# Altium footprint library ADI.PcbLib: 25 footprints (part 4 of 4)
Each footprint in its own frame and in the unit in brackets; x right, y up, seen from the top. Pads: shape width x height; smd on the part's side, far side on the other; paste and mask are expansions set on the pad; w line width, h text height; cw(c..) or ccw(c..) is an arc to the next point about the centre after c.
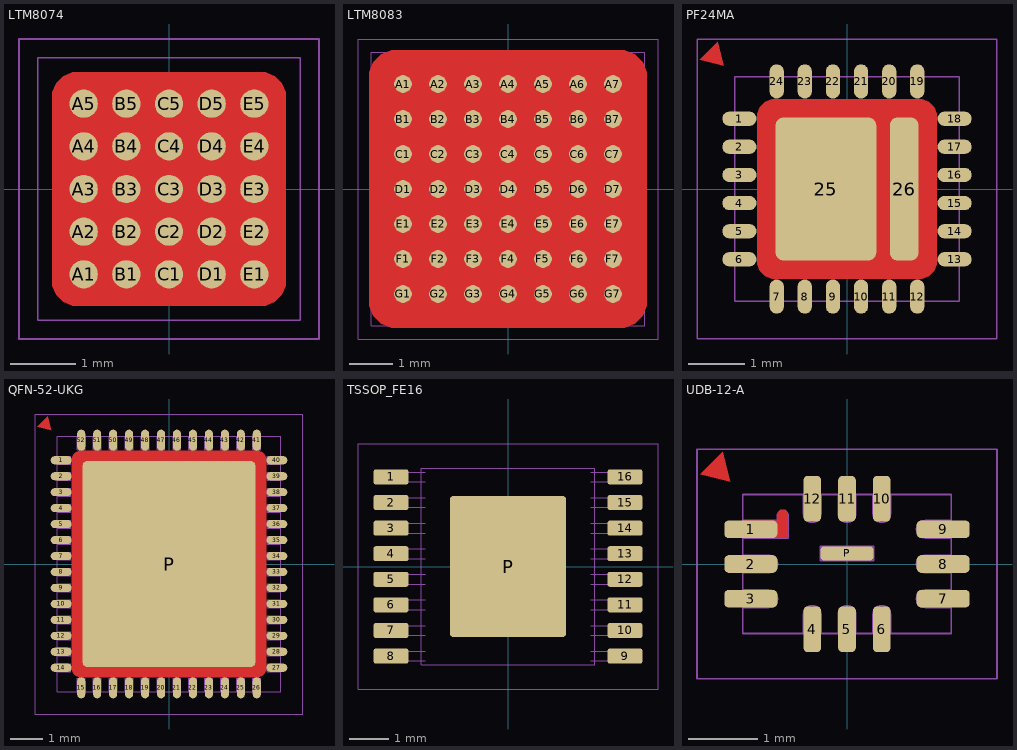
[diagram p3: the footprints below, top view; thin cyan lines are the x and y axes]

## LTM8074 [mil]
pads (25):
  round 17 smd paste+0 mask-1.5: A1(-51.18,-51.18) A2(-51.18,-25.59) A3(-51.18,0) A4(-51.18,25.59) A5(-51.18,51.18) B1(-25.59,-51.18) B2(-25.59,-25.59) B3(-25.59,0) B4(-25.59,25.59) B5(-25.59,51.18) C1(0,-51.18) C2(0,-25.59) C3(0,0) C4(0,25.59) C5(0,51.18) D1(25.59,-51.18) D2(25.59,-25.59) D3(25.59,0) D4(25.59,25.59) D5(25.59,51.18) E1(51.18,-51.18) E2(51.18,-25.59) E3(51.18,0) E4(51.18,25.59) E5(51.18,51.18)
Top Layer:
  pour cut-out: -55,70 -57.98,70 -63.5,67.72 -67.72,63.5 -70,57.98 -70,55 -70,-55 -70,-57.98 -67.72,-63.5 -63.5,-67.72 -57.98,-70 -55,-70 55,-70 57.98,-70 63.5,-67.72 67.72,-63.5 70,-57.98 70,-55 70,55 70,57.98 67.72,63.5 63.5,67.72 57.98,70 55,70
Top Solder:
  region: -89.2,-89.21 -60.65,-89.21 -89.2,-60.67
  region: -69.2,81.2 -68.4,81.2 -66.93,81.81 -65.81,82.93 -65.2,84.4 -65.2,85.2 -65.2,85.99 -65.81,87.46 -66.93,88.59 -68.4,89.2 -69.2,89.2 -85.2,89.2 -85.99,89.2 -87.46,88.59 -88.59,87.46 -89.2,85.99 -89.2,85.2 -89.2,69.2 -89.2,68.4 -88.59,66.93 -87.46,65.81 -85.99,65.2 -85.2,65.2 -84.4,65.2 -82.93,65.81 -81.81,66.93 -81.2,68.4 -81.2,69.2 -81.2,79.2 -81.16,79.59 -80.86,80.31 -80.31,80.86 -79.59,81.16 -79.2,81.2
  region: 81.21,69.2 81.21,68.4 81.82,66.93 82.94,65.81 84.41,65.2 85.21,65.2 86,65.2 87.48,65.81 88.6,66.93 89.21,68.4 89.21,69.2 89.21,85.2 89.21,85.99 88.6,87.46 87.48,88.59 86,89.2 85.21,89.2 69.21,89.2 68.41,89.2 66.94,88.59 65.82,87.46 65.21,85.99 65.21,85.2 65.21,84.4 65.82,82.93 66.94,81.81 68.41,81.2 69.21,81.2 79.21,81.2 79.6,81.16 80.32,80.86 80.87,80.31 81.17,79.59 81.21,79.2
  region: 69.21,-81.21 68.41,-81.21 66.94,-81.82 65.82,-82.94 65.21,-84.41 65.21,-85.21 65.21,-86 65.82,-87.48 66.94,-88.6 68.41,-89.21 69.21,-89.21 85.21,-89.21 86.01,-89.21 87.48,-88.6 88.6,-87.48 89.21,-86 89.21,-85.21 89.21,-69.21 89.21,-68.41 88.6,-66.94 87.48,-65.82 86.01,-65.21 85.21,-65.21 84.41,-65.21 82.94,-65.82 81.82,-66.94 81.21,-68.41 81.21,-69.21 81.21,-79.21 81.17,-79.6 80.87,-80.32 80.32,-80.87 79.6,-81.17 79.21,-81.21
Top Designator:
  text ".Designator" at -127.64,-12.5 h35
Top Courtyard:
  lines w1: -90,-90 90,-90 90,90 -90,90 -90,-90
Top Component Outline:
  lines w1: -78.73,-78.75 78.75,-78.75 78.75,78.73 -78.73,78.73 -78.73,-78.75
3D body "BGA25_A.step": height 46.36, standoff -1.02, extent -78.75,-78.75 78.73,78.73

## LTM8083 [mil]
pads (49):
  round 16 smd mask+2: A1(-94.49,94.49) A2(-62.99,94.49) A3(-31.5,94.49) A4(0,94.49) A5(31.5,94.49) A6(62.99,94.49) A7(94.49,94.49) B1(-94.49,62.99) B2(-62.99,62.99) B3(-31.5,62.99) B4(0,62.99) B5(31.5,62.99) B6(62.99,62.99) B7(94.49,62.99) C1(-94.49,31.5) C2(-62.99,31.5) C3(-31.5,31.5) C4(0,31.5) C5(31.5,31.5) C6(62.99,31.5) C7(94.49,31.5) D1(-94.49,0) D2(-62.99,0) D3(-31.5,0) D4(0,0) D5(31.5,0) D6(62.99,0) D7(94.49,0) E1(-94.49,-31.5) E2(-62.99,-31.5) E3(-31.5,-31.5) E4(0,-31.5) E5(31.5,-31.5) E6(62.99,-31.5) E7(94.49,-31.5) F1(-94.49,-62.99) F2(-62.99,-62.99) F3(-31.5,-62.99) F4(0,-62.99) F5(31.5,-62.99) F6(62.99,-62.99) F7(94.49,-62.99) G1(-94.49,-94.49) G2(-62.99,-94.49) G3(-31.5,-94.49) G4(0,-94.49) G5(31.5,-94.49) G6(62.99,-94.49) G7(94.49,-94.49)
Top Layer:
  pour cut-out: -100,125 -104.97,125 -114.16,121.19 -121.19,114.16 -125,104.97 -125,100 -125,-100 -125,-104.97 -121.19,-114.16 -114.16,-121.19 -104.97,-125 -100,-125 100,-125 104.97,-125 114.16,-121.19 121.19,-114.16 125,-104.97 125,-100 125,100 125,104.97 121.19,114.16 114.16,121.19 104.97,125 100,125
Top Solder:
  region: -125.5,-113.5 -125.5,-112.7 -126.1,-111.23 -127.23,-110.11 -128.7,-109.5 -129.5,-109.5 -130.29,-109.5 -131.76,-110.11 -132.89,-111.23 -133.5,-112.7 -133.5,-113.5 -133.5,-129.5 -133.5,-130.29 -132.89,-131.76 -131.76,-132.89 -130.29,-133.5 -129.5,-133.5 -113.5,-133.5 -112.7,-133.5 -111.23,-132.89 -110.1,-131.76 -109.5,-130.29 -109.5,-129.5 -109.5,-128.7 -110.1,-127.23 -111.23,-126.11 -112.7,-125.5 -113.5,-125.5 -123.5,-125.5 -123.89,-125.46 -124.61,-125.16 -125.16,-124.61 -125.46,-123.89 -125.5,-123.5
  region: 113.5,-125.5 112.7,-125.5 111.23,-126.1 110.11,-127.23 109.5,-128.7 109.5,-129.5 109.5,-130.29 110.11,-131.76 111.23,-132.89 112.7,-133.5 113.5,-133.5 129.5,-133.5 130.29,-133.5 131.76,-132.89 132.89,-131.76 133.5,-130.29 133.5,-129.5 133.5,-113.5 133.5,-112.7 132.89,-111.23 131.76,-110.1 130.29,-109.5 129.5,-109.5 128.7,-109.5 127.23,-110.1 126.11,-111.23 125.5,-112.7 125.5,-113.5 125.5,-123.5 125.46,-123.89 125.16,-124.61 124.61,-125.16 123.89,-125.46 123.5,-125.5
  region: 125.5,113.5 125.5,112.7 126.1,111.23 127.23,110.11 128.7,109.5 129.5,109.5 130.29,109.5 131.76,110.11 132.89,111.23 133.5,112.7 133.5,113.5 133.5,129.5 133.5,130.29 132.89,131.76 131.76,132.89 130.29,133.5 129.5,133.5 113.5,133.5 112.7,133.5 111.23,132.89 110.1,131.76 109.5,130.29 109.5,129.5 109.5,128.7 110.1,127.23 111.23,126.11 112.7,125.5 113.5,125.5 123.5,125.5 123.89,125.46 124.61,125.16 125.16,124.61 125.46,123.89 125.5,123.5
  region: -133.5,133.5 -133.5,104.95 -104.95,133.5
Top Designator:
  text ".Designator" at -127.64,-12.5 h35
Top Courtyard:
  lines w1: -135,-135 -135,135 135,135 135,-135 -135,-135
Top Component Outline:
  lines w1: -123.03,-123.03 123.03,-123.03 123.03,123.03 -123.03,123.03 -123.03,-123.03
3D body "BGA49C80P7X7_625X625X222.step": height 87.4, standoff 0, extent -123.03,-123.03 123.03,123.03

## PF24MA [mil]
pads (26):
  oval 24x10 smd mask+2: 1(-75.31,49.21) 2(-75.31,29.53) 3(-75.31,9.84) 4(-75.31,-9.84) 5(-75.31,-29.53) 6(-75.31,-49.21) 13(75.31,-49.21) 14(75.31,-29.53) 15(75.31,-9.84) 16(75.31,9.84) 17(75.31,29.53) 18(75.31,49.21)
  oval 10x24 smd mask+2: 7(-49.21,-75.31) 8(-29.53,-75.31) 9(-9.84,-75.31) 10(9.84,-75.31) 11(29.53,-75.31) 12(49.21,-75.31) 19(49.21,75.31) 20(29.53,75.31) 21(9.84,75.31) 22(-9.84,75.31) 23(-29.53,75.31) 24(-49.21,75.31)
  rrect15% 70.5x100 smd paste-300 mask+1.5: 25(-14.75,0)
  rrect50% 20x100 smd mask+1.5: 26(40,0)
Top Layer:
  region: -86.26,86.26 -90.5,103.23 -103.23,90.51
  pour cut-out: -50,63 -52.59,63 -57.36,61.02 -61.02,57.36 -63,52.59 -63,50 -63,-50 -63,-52.59 -61.02,-57.36 -57.36,-61.02 -52.59,-63 -50,-63 50,-63 52.59,-63 57.36,-61.02 61.02,-57.36 63,-52.59 63,-50 63,50 63,52.59 61.02,57.36 57.36,61.02 52.59,63 50,63
Top Paste:
  rectangle: -50,6 18,47
  region: 18,-47 18,-6 -50,-6 -50,-47
Top Designator:
  text ".Designator" at -127.64,-12.5 h35
Top Courtyard:
  lines w1: -105,-105 105,-105 105,105 -105,105 -105,-105
Top Component Outline:
  lines w1: -78.74,-78.74 -78.74,78.74 78.74,78.74 78.74,-78.74 -78.74,-78.74
3D body "UTQFN-24_PF.step": height 24.09, standoff 0, extent -78.49,-78.49 78.51,78.51
3D body: height 10, standoff 0, extent 69,-54.21 79,-44.21
3D body: height 10, standoff 0, extent 69,-34.53 79,-24.53
3D body: height 10, standoff 0, extent 69,-14.84 79,-4.84
3D body: height 10, standoff 0, extent 69,4.84 79,14.84
3D body: height 10, standoff 0, extent 69,24.53 79,34.53
3D body: height 10, standoff 0, extent 69,44.21 79,54.21
3D body: height 10, standoff 0, extent -54.21,69 -44.21,79
3D body: height 10, standoff 0, extent -34.53,69 -24.53,79
3D body: height 10, standoff 0, extent -14.84,69 -4.84,79
3D body: height 10, standoff 0, extent 4.84,69 14.84,79
3D body: height 10, standoff 0, extent 24.53,69 34.53,79
3D body: height 10, standoff 0, extent 44.21,69 54.21,79
3D body: height 10, standoff 0, extent -79,-54.21 -69,-44.21
3D body: height 10, standoff 0, extent -79,-34.53 -69,-24.53
3D body: height 10, standoff 0, extent -79,-14.84 -69,-4.84
3D body: height 10, standoff 0, extent -79,4.84 -69,14.84
3D body: height 10, standoff 0, extent -79,24.53 -69,34.53
3D body: height 10, standoff 0, extent -79,44.21 -69,54.21
3D body: height 10, standoff 0, extent 44.21,-79 54.21,-69
3D body: height 10, standoff 0, extent 24.53,-79 34.53,-69
3D body: height 10, standoff 0, extent 4.84,-79 14.84,-69
3D body: height 10, standoff 0, extent -14.84,-79 -4.84,-69
3D body: height 10, standoff 0, extent -34.53,-79 -24.53,-69
3D body: height 10, standoff 0, extent -54.21,-79 -44.21,-69

## QFN-52-UKG [mil]
pads (53):
  oval 26x10 smd paste+0 mask+1.5: 1(-132.95,127.95) 2(-132.95,108.27) 3(-132.95,88.58) 4(-132.95,68.9) 5(-132.95,49.21) 6(-132.95,29.53) 7(-132.95,9.84) 8(-132.95,-9.84) 9(-132.95,-29.53) 10(-132.95,-49.21) 11(-132.95,-68.9) 12(-132.95,-88.58) 13(-132.95,-108.27) 14(-132.95,-127.95) 27(132.95,-127.95) 28(132.95,-108.27) 29(132.95,-88.58) 30(132.95,-68.9) 31(132.95,-49.21) 32(132.95,-29.53) 33(132.95,-9.84) 34(132.95,9.84) 35(132.95,29.53) 36(132.95,49.21) 37(132.95,68.9) 38(132.95,88.58) 39(132.95,108.27) 40(132.95,127.95)
  oval 10x26 smd paste+0 mask+1.5: 15(-108.27,-152.64) 16(-88.58,-152.64) 17(-68.9,-152.64) 18(-49.21,-152.64) 19(-29.53,-152.64) 20(-9.84,-152.64) 21(9.84,-152.64) 22(29.53,-152.64) 23(49.21,-152.64) 24(68.9,-152.64) 25(88.58,-152.64) 26(108.27,-152.64) 41(108.27,152.64) 42(88.58,152.64) 43(68.9,152.64) 44(49.21,152.64) 45(29.53,152.64) 46(9.84,152.64) 47(-9.84,152.64) 48(-29.53,152.64) 49(-49.21,152.64) 50(-68.9,152.64) 51(-88.58,152.64) 52(-108.27,152.64)
  rrect5% 213x254 smd paste-300 mask+1.5: P(0,0)
Top Layer:
  pour cut-out: -108.27,139.64 -110.59,139.64 -114.89,137.86 -118.17,134.57 -119.95,130.28 -119.95,127.95 -119.95,-127.95 -119.95,-130.28 -118.17,-134.57 -114.89,-137.86 -110.59,-139.64 -108.27,-139.64 108.27,-139.64 110.59,-139.64 114.89,-137.86 118.17,-134.57 119.95,-130.28 119.95,-127.95 119.95,127.95 119.95,130.28 118.17,134.57 114.89,137.86 110.59,139.64 108.27,139.64
  region: -145.31,165 -149.56,181.97 -162.29,169.25
Top Paste:
  region: 95,80 95,120 55,120 55,80
  region: 95,30 95,70 55,70 55,30
  rectangle: 55,-120 95,-80
  rectangle: 55,-70 95,-30
  rectangle: 55,-20 95,20
  region: -5,120 -45,120 -45,80 -5,80
  region: -55,120 -95,120 -95,80 -55,80
  region: 45,80 45,120 5,120 5,80
  region: -95,20 -95,-20 -55,-20 -55,20
  region: -5,70 -45,70 -45,30 -5,30
  region: -95,-80 -95,-120 -55,-120 -55,-80
  region: -95,-30 -95,-70 -55,-70 -55,-30
  region: -55,70 -95,70 -95,30 -55,30
  region: 45,30 45,70 5,70 5,30
  rectangle: 5,-120 45,-80
  rectangle: -45,-120 -5,-80
  rectangle: -45,-70 -5,-30
  rectangle: 5,-70 45,-30
  rectangle: 5,-20 45,20
  rectangle: -45,-20 -5,20
Top Courtyard:
  lines w1: -165,-185 -165,185 165,185 165,-185 -165,-185
Top Component Outline:
  drawing of 212 lines, arcs and shapes, not listed
3D body: height 7.87, standoff 0, extent -113.17,140.67 -103.36,157.52
3D body: height 7.87, standoff 0, extent -93.49,140.67 -83.68,157.52
3D body: height 7.87, standoff 0, extent -73.8,140.67 -63.99,157.52
3D body: height 7.87, standoff 0, extent -54.12,140.67 -44.31,157.52
3D body: height 7.87, standoff 0, extent -34.43,140.67 -24.62,157.52
3D body: height 7.87, standoff 0, extent -14.75,140.67 -4.94,157.52
3D body: height 7.87, standoff 0, extent 4.94,140.67 14.75,157.52
3D body: height 7.87, standoff 0, extent 24.62,140.67 34.43,157.52
3D body: height 7.87, standoff 0, extent 44.31,140.67 54.12,157.52
3D body: height 7.87, standoff 0, extent 63.99,140.67 73.8,157.52
3D body: height 7.87, standoff 0, extent 83.68,140.67 93.49,157.52
3D body: height 7.87, standoff 0, extent 103.36,140.67 113.17,157.52
3D body: height 7.87, standoff 0, extent 120.98,123.05 137.83,132.86
3D body: height 7.87, standoff 0, extent 120.98,103.36 137.83,113.17
3D body: height 7.87, standoff 0, extent 120.98,83.68 137.83,93.49
3D body: height 7.87, standoff 0, extent 120.98,63.99 137.83,73.8
3D body: height 7.87, standoff 0, extent 120.98,44.31 137.83,54.12
3D body: height 7.87, standoff 0, extent 120.98,24.62 137.83,34.43
3D body: height 7.87, standoff 0, extent 120.98,4.94 137.83,14.75
3D body: height 7.87, standoff 0, extent 120.98,-14.75 137.83,-4.94
3D body: height 7.87, standoff 0, extent 120.98,-34.43 137.83,-24.62
3D body: height 7.87, standoff 0, extent 120.98,-54.12 137.83,-44.31
3D body: height 7.87, standoff 0, extent 120.98,-73.8 137.83,-63.99
3D body: height 7.87, standoff 0, extent 120.98,-93.49 137.83,-83.68
3D body: height 7.87, standoff 0, extent 120.98,-113.17 137.83,-103.36
3D body: height 7.87, standoff 0, extent 120.98,-132.86 137.83,-123.05
3D body: height 7.87, standoff 0, extent 103.36,-157.52 113.17,-140.67
3D body: height 7.87, standoff 0, extent 83.68,-157.52 93.49,-140.67
3D body: height 7.87, standoff 0, extent 63.99,-157.52 73.8,-140.67
3D body: height 7.87, standoff 0, extent 44.31,-157.52 54.12,-140.67
3D body: height 7.87, standoff 0, extent 24.62,-157.52 34.43,-140.67
3D body: height 7.87, standoff 0, extent 4.94,-157.52 14.75,-140.67
3D body: height 7.87, standoff 0, extent -14.75,-157.52 -4.94,-140.67
3D body: height 7.87, standoff 0, extent -34.43,-157.52 -24.62,-140.67
3D body: height 7.87, standoff 0, extent -54.12,-157.52 -44.31,-140.67
3D body: height 7.87, standoff 0, extent -73.8,-157.52 -63.99,-140.67
3D body: height 7.87, standoff 0, extent -93.49,-157.52 -83.68,-140.67
3D body: height 7.87, standoff 0, extent -113.17,-157.52 -103.36,-140.67
3D body: height 7.87, standoff 0, extent -137.83,-132.86 -120.98,-123.05
3D body: height 7.87, standoff 0, extent -137.83,-113.17 -120.98,-103.36
3D body: height 7.87, standoff 0, extent -137.83,-93.49 -120.98,-83.68
3D body: height 7.87, standoff 0, extent -137.83,-73.8 -120.98,-63.99
3D body: height 7.87, standoff 0, extent -137.83,-54.12 -120.98,-44.31
3D body: height 7.87, standoff 0, extent -137.83,-34.43 -120.98,-24.62
3D body: height 7.87, standoff 0, extent -137.83,-14.75 -120.98,-4.94
3D body: height 7.87, standoff 0, extent -137.83,4.94 -120.98,14.75
3D body: height 7.87, standoff 0, extent -137.83,24.62 -120.98,34.43
3D body: height 7.87, standoff 0, extent -137.83,44.31 -120.98,54.12
3D body: height 7.87, standoff 0, extent -137.83,63.99 -120.98,73.8
3D body: height 7.87, standoff 0, extent -137.83,83.68 -120.98,93.49
3D body: height 7.87, standoff 0, extent -137.83,103.36 -120.98,113.17
3D body: height 7.87, standoff 0, extent -137.83,123.05 -120.98,132.86
3D body: height 29.53, standoff 1.18, extent -137.8,-157.48 137.8,157.48

## TSSOP_FE16 [mil]
pads (17):
  rrect30% 35x15 smd mask+2: 1(-117,89.57) 2(-117,63.98) 3(-117,38.39) 4(-117,12.8) 5(-117,-12.8) 6(-117,-38.39) 7(-117,-63.98) 8(-117,-89.57) 9(117,-89.57) 10(117,-63.98) 11(117,-38.39) 12(117,-12.8) 13(117,12.8) 14(117,38.39) 15(117,63.98) 16(117,89.57)
  rrect5% 115.75x140.94 smd paste-200 mask+2: P(0,0)
Top Paste:
  rectangle: -55,-55 -25,-25
  rectangle: -55,-15 -25,15
  rectangle: -55,25 -25,55
  rectangle: 25,25 55,55
  rectangle: 25,-15 55,15
  rectangle: 25,-55 55,-25
  rectangle: -15,-55 15,-25
  rectangle: -15,-15 15,15
  rectangle: -15,25 15,55
Top Solder:
  region: -115,112.8 -106,127.8 -124,127.8
Top Courtyard:
  lines w1: -150,-122.8 -150,122.8 150,122.8 150,-122.8 -150,-122.8
Top Component Outline:
  lines w1: -114.17,-94.49 -114.17,-84.65 ; -114.17,-68.9 -114.17,-59.06 ; -114.17,-43.31 -114.17,-33.46 ; -114.17,-17.72 -114.17,-7.87 ; -114.17,7.87 -114.17,17.72 ; -114.17,33.46 -114.17,43.31 ; -114.17,59.06 -114.17,68.9 ; -114.17,84.65 -114.17,94.49 ; -107.53,-94.49 -107.53,-84.65 ; -107.53,-68.9 -107.53,-59.06 ; -107.53,-43.31 -107.53,-33.46 ; -107.53,-17.72 -107.53,-7.87 ; -107.53,7.87 -107.53,17.72 ; -107.53,33.46 -107.53,43.31 ; -107.53,59.06 -107.53,68.9 ; -107.53,84.65 -107.53,94.49 ; -82.68,-94.49 -125.98,-94.49 -125.98,-84.65 -82.68,-84.65 ; -82.68,-68.9 -125.98,-68.9 -125.98,-59.06 -82.68,-59.06 ; -82.68,-43.31 -125.98,-43.31 -125.98,-33.46 -82.68,-33.46 ; -82.68,-17.72 -125.98,-17.72 -125.98,-7.87 -82.68,-7.87 ; -82.68,7.87 -125.98,7.87 -125.98,17.72 -82.68,17.72 ; -82.68,33.46 -125.98,33.46 -125.98,43.31 -82.68,43.31 ; -82.68,59.06 -125.98,59.06 -125.98,68.9 -82.68,68.9 ; -82.68,84.65 -125.98,84.65 -125.98,94.49 -82.68,94.49 ; 82.68,-94.49 125.98,-94.49 125.98,-84.65 82.68,-84.65 ; 82.68,-68.9 125.98,-68.9 125.98,-59.05 82.68,-59.05 ; 82.68,-43.31 125.98,-43.31 125.98,-33.46 82.68,-33.46 ; 82.68,-17.72 125.98,-17.72 125.98,-7.87 82.68,-7.87 ; 82.68,7.87 125.98,7.87 125.98,17.72 82.68,17.72 ; 82.68,33.46 125.98,33.46 125.98,43.31 82.68,43.31 ; 82.68,59.06 125.98,59.06 125.98,68.9 82.68,68.9 ; 82.68,84.65 125.98,84.65 125.98,94.49 82.68,94.49 ; 107.53,-94.49 107.53,-84.65 ; 107.53,-68.9 107.53,-59.05 ; 107.53,-43.31 107.53,-33.46 ; 107.53,-17.72 107.53,-7.87 ; 107.53,7.87 107.53,17.72 ; 107.53,33.46 107.53,43.31 ; 107.53,59.06 107.53,68.9 ; 107.53,84.65 107.53,94.49 ; 114.17,-94.49 114.17,-84.65 ; 114.17,-68.9 114.17,-59.05 ; 114.17,-43.31 114.17,-33.46 ; 114.17,-17.72 114.17,-7.87 ; 114.17,7.87 114.17,17.72 ; 114.17,33.46 114.17,43.31 ; 114.17,59.06 114.17,68.9 ; 114.17,84.65 114.17,94.49 ; -86.61,-98.43 86.61,-98.43 86.61,98.43 -86.61,98.43 -86.61,-98.43
3D body: height 7, standoff 0, extent 114.17,84.65 125.98,94.49
3D body: height 24, standoff 0, extent 107.53,84.65 114.17,94.49
3D body: height 24, standoff 17, extent 82.68,84.65 107.53,94.49
3D body: height 40, standoff 0, extent -86.61,-98.43 86.61,98.43
3D body: height 7, standoff 0, extent 114.17,59.06 125.98,68.9
3D body: height 24, standoff 0, extent 107.53,59.06 114.17,68.9
3D body: height 24, standoff 17, extent 82.68,59.06 107.53,68.9
3D body: height 7, standoff 0, extent 114.17,33.46 125.98,43.31
3D body: height 24, standoff 0, extent 107.53,33.46 114.17,43.31
3D body: height 24, standoff 17, extent 82.68,33.46 107.53,43.31
3D body: height 7, standoff 0, extent 114.17,7.87 125.98,17.72
3D body: height 24, standoff 0, extent 107.53,7.87 114.17,17.72
3D body: height 24, standoff 17, extent 82.68,7.87 107.53,17.72
3D body: height 7, standoff 0, extent 114.17,-17.72 125.98,-7.87
3D body: height 24, standoff 0, extent 107.53,-17.72 114.17,-7.87
3D body: height 24, standoff 17, extent 82.68,-17.72 107.53,-7.87
3D body: height 7, standoff 0, extent 114.17,-43.31 125.98,-33.46
3D body: height 24, standoff 0, extent 107.53,-43.31 114.17,-33.46
3D body: height 24, standoff 17, extent 82.68,-43.31 107.53,-33.46
3D body: height 7, standoff 0, extent 114.17,-68.9 125.98,-59.05
3D body: height 24, standoff 0, extent 107.53,-68.9 114.17,-59.05
3D body: height 24, standoff 17, extent 82.68,-68.9 107.53,-59.05
3D body: height 7, standoff 0, extent 114.17,-94.49 125.98,-84.65
3D body: height 24, standoff 0, extent 107.53,-94.49 114.17,-84.65
3D body: height 24, standoff 17, extent 82.68,-94.49 107.53,-84.65
3D body: height 7, standoff 0, extent -125.98,-94.49 -114.17,-84.65
3D body: height 24, standoff 0, extent -114.17,-94.49 -107.53,-84.65
3D body: height 24, standoff 17, extent -107.53,-94.49 -82.68,-84.65
3D body: height 7, standoff 0, extent -125.98,-68.9 -114.17,-59.06
3D body: height 24, standoff 0, extent -114.17,-68.9 -107.53,-59.06
3D body: height 24, standoff 17, extent -107.53,-68.9 -82.68,-59.06
3D body: height 7, standoff 0, extent -125.98,-43.31 -114.17,-33.46
3D body: height 24, standoff 0, extent -114.17,-43.31 -107.53,-33.46
3D body: height 24, standoff 17, extent -107.53,-43.31 -82.68,-33.46
3D body: height 7, standoff 0, extent -125.98,-17.72 -114.17,-7.87
3D body: height 24, standoff 0, extent -114.17,-17.72 -107.53,-7.87
3D body: height 24, standoff 17, extent -107.53,-17.72 -82.68,-7.87
3D body: height 7, standoff 0, extent -125.98,7.87 -114.17,17.72
3D body: height 24, standoff 0, extent -114.17,7.87 -107.53,17.72
3D body: height 24, standoff 17, extent -107.53,7.87 -82.68,17.72
3D body: height 7, standoff 0, extent -125.98,33.46 -114.17,43.31
3D body: height 24, standoff 0, extent -114.17,33.46 -107.53,43.31
3D body: height 24, standoff 17, extent -107.53,33.46 -82.68,43.31
3D body: height 7, standoff 0, extent -125.98,59.06 -114.17,68.9
3D body: height 24, standoff 0, extent -114.17,59.06 -107.53,68.9
3D body: height 24, standoff 17, extent -107.53,59.06 -82.68,68.9
3D body: height 7, standoff 0, extent -125.98,84.65 -114.17,94.49
3D body: height 24, standoff 0, extent -114.17,84.65 -107.53,94.49
3D body: height 24, standoff 17, extent -107.53,84.65 -82.68,94.49

## UDB-12-A [mil]
height 29.53
pads (13):
  rrect50% 30x10 smd mask+1.5: 1(-54.5,19.68) 2(-54.5,0) 3(-54.5,-19.68) 7(54.5,-19.68) 8(54.5,0) 9(54.5,19.68)
  rrect50% 10x26 smd mask+1.5: 4(-19.69,-37) 5(0,-37) 6(19.68,-37) 10(19.68,37) 11(0,37) 12(-19.68,37)
  rrect50% 30x8 smd mask+1.5: P(0,6)
Top Layer:
  region: -59.06,24.61 -39.37,24.61 -39.37,27.56 -39.37,28.78 -37.64,30.51 -35.2,30.51 -33.47,28.78 -33.47,27.56 -33.46,14.76 -59.06,14.76
  region: -66.26,46.57 -70.5,63.55 -83.23,50.82
Top Designator:
  text ".Designator" at -127.64,-12.5 h35
Top Courtyard:
  lines w1: -85,-65 85,-65 85,65 -85,65 -85,-65
Top Component Outline:
  lines w1: -59.06,-24.61 -44.29,-24.61 ccw(c-44.29,-19.69) -44.29,-14.76 -59.06,-14.76 ; -59.06,-4.92 -44.29,-4.92 ccw(c-44.29,0) -44.29,4.92 -59.06,4.92 ; -59.06,14.76 -33.46,14.76 -33.46,27.56 ccw(c-36.42,27.56) -39.37,27.56 -39.37,24.61 -59.06,24.61 ; -24.61,-39.37 -24.61,-28.54 cw(c-19.69,-28.54) -14.76,-28.54 -14.77,-39.37 ; -24.61,39.37 -24.61,28.54 ccw(c-19.69,28.54) -14.76,28.54 -14.76,39.37 ; -4.92,-39.37 -4.92,-28.54 cw(c0,-28.54) 4.92,-28.54 4.92,-39.37 ; -4.92,39.37 -4.92,28.54 ccw(c0,28.54) 4.92,28.54 4.92,39.37 ; 14.76,-39.37 14.76,-28.54 cw(c19.68,-28.54) 24.61,-28.54 24.6,-39.37 ; 14.76,39.37 14.76,28.54 ccw(c19.68,28.54) 24.61,28.54 24.61,39.37 ; 59.05,-24.61 44.29,-24.61 cw(c44.29,-19.68) 44.29,-14.76 59.05,-14.76 ; 59.05,-4.92 44.29,-4.92 cw(c44.29,0) 44.29,4.92 59.05,4.92 ; 59.05,14.76 44.29,14.76 cw(c44.29,19.69) 44.29,24.61 59.05,24.61 ; -59.06,-39.37 59.05,-39.37 59.05,39.37 -59.06,39.37 -59.06,-39.37 ; -15.16,1.97 -15.16,9.84 15.16,9.84 15.16,1.97 -15.16,1.97
3D body: height 30, standoff 29, extent -45.95,14.33 -34,26.3
3D body: height 7.87, standoff 0, extent -59.45,-24.61 -44.69,-14.76
3D body: height 7.87, standoff 0, extent -59.45,-4.92 -44.69,4.92
3D body: height 7.87, standoff 0, extent -59.45,14.76 -44.69,24.61
3D body: height 7.87, standoff 0, extent 44.68,-24.61 59.45,-14.76
3D body: height 7.87, standoff 0, extent 44.68,-4.92 59.45,4.92
3D body: height 7.87, standoff 0, extent -24.61,-39.76 -14.77,-27.58
3D body: height 7.87, standoff 0, extent -4.92,-39.76 4.92,-27.58
3D body: height 7.87, standoff 0, extent 14.76,-39.76 24.6,-27.58
3D body: height 7.87, standoff 0, extent -24.61,27.58 -14.76,39.76
3D body: height 7.87, standoff 0, extent -4.92,27.58 4.92,39.76
3D body: height 7.87, standoff 0, extent 14.76,27.58 24.61,39.76
3D body: height 7.87, standoff 0, extent 44.68,14.76 59.45,24.61
3D body: height 29.53, standoff 1.97, extent -59.06,-39.37 59.05,39.37